# Altium integrated library Capacitors - Aluminum - Electrolytic SMT.IntLib: 1988 symbols (part 7 of 50)
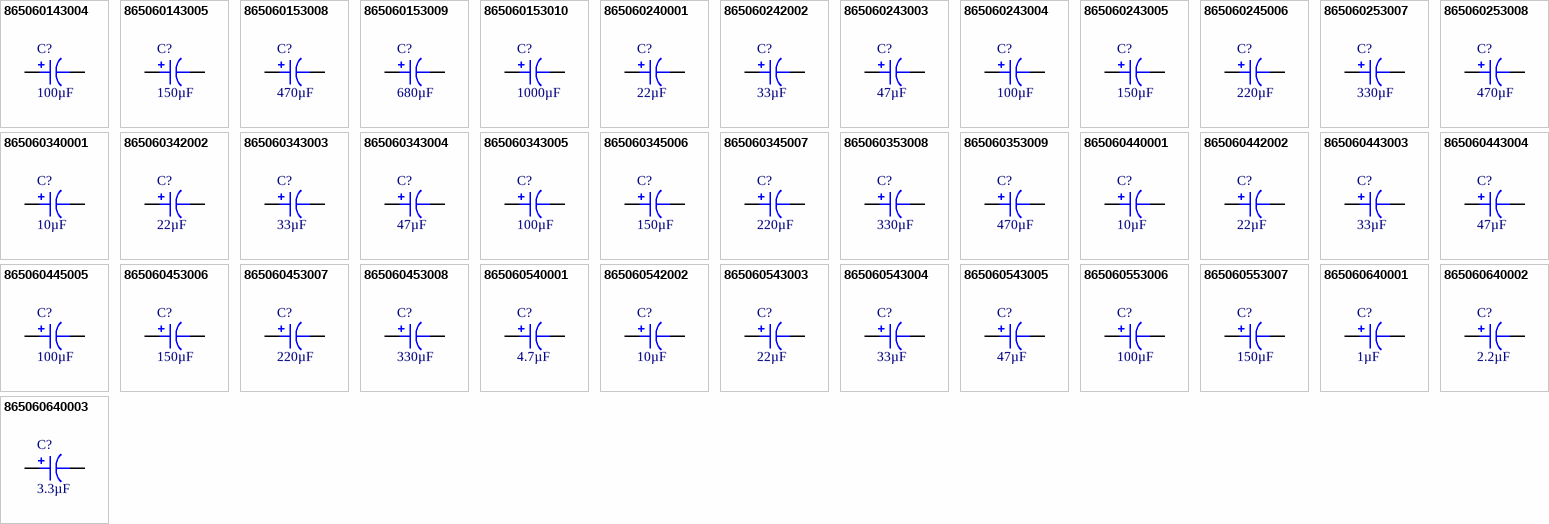
[diagram p55: symbols 865060143004 to 865060640003]

## 865060153008
designator C?, comment 470µF
CAP 470 UF 20% 6.3 V; Part Number: 865060153008; Manufacturer: Würth Elektronik; Impedance: 170 mOhms; Lifetime @ Temp.: 5000 Hrs @ 105°C; Polarization: Polar; Ripple Current @ High Frequency: 500mA @ 100kHz; Ripple Current @ Low Frequency: 325mA @ 120Hz; Surface Mount Land Size: 0.327" L x 0.327" W (8.30mm x 8.30mm); Voltage - Rated: 6.3V; Applications: General Purpose; Capacitance: 470µF; ComponentLink1Description: Datasheet; ComponentLink1URL: https://katalog.we-online.de/pbs/datasheet/865060153008.pdf; ComponentLink2Description: DigiKey Link; ComponentLink2URL: http://digikey.com/product-detail/en/w-rth-elektronik/865060153008/732-8563-1-ND/5728520; Device Package: Radial, Can - SMD; Height - Seated (Max): 0.413" (10.50mm); LastUpdated: 9/2/2020 1:25:16 AM; Lifecycle Status: Active; Minimum Order: 1; Mounting Type: Surface Mount; Operating Temperature: -55°C ~ 105°C; Package / Case: Radial, Can - SMD; Packaging: TapeAndReel; PartId: 7479; Part Status: Active; Price: 0.38; Series: WCAP-ASLL; Size / Dimension: 0.315" Dia (8.00mm); Supplier 1: DigiKey; Supplier Part Number 1: 732-8563-1-ND; Tolerance: ±20%; Value: 470µF
footprint CAP ALSMD 8.3MM H10.5MM
pins: 1, 2

## 865060153009
designator C?, comment 680µF
CAP 680 UF 20% 6.3 V; Part Number: 865060153009; Manufacturer: Würth Elektronik; Impedance: 170 mOhms; Lifetime @ Temp.: 5000 Hrs @ 105°C; Polarization: Polar; Ripple Current @ High Frequency: 550mA @ 100kHz; Ripple Current @ Low Frequency: 357.5mA @ 120Hz; Surface Mount Land Size: 0.327" L x 0.327" W (8.30mm x 8.30mm); Voltage - Rated: 6.3V; Applications: General Purpose; Capacitance: 680µF; ComponentLink1Description: Datasheet; ComponentLink1URL: https://katalog.we-online.de/pbs/datasheet/865060153009.pdf; ComponentLink2Description: DigiKey Link; ComponentLink2URL: http://digikey.com/product-detail/en/w-rth-elektronik/865060153009/732-8564-1-ND/5728521; Device Package: Radial, Can - SMD; Height - Seated (Max): 0.413" (10.50mm); LastUpdated: 9/2/2020 1:25:15 AM; Lifecycle Status: Active; Minimum Order: 1; Mounting Type: Surface Mount; Operating Temperature: -55°C ~ 105°C; Package / Case: Radial, Can - SMD; Packaging: TapeAndReel; PartId: 7589; Part Status: Active; Price: 0.40; Series: WCAP-ASLL; Size / Dimension: 0.315" Dia (8.00mm); Supplier 1: DigiKey; Supplier Part Number 1: 732-8564-1-ND; Tolerance: ±20%; Value: 680µF
footprint CAP ALSMD 8.3MM H10.5MM
pins: 1, 2

## 865060153010
designator C?, comment 1000µF
CAP 1000 UF 20% 6.3 V; Part Number: 865060153010; Manufacturer: Würth Elektronik; Impedance: 170 mOhms; Lifetime @ Temp.: 5000 Hrs @ 105°C; Polarization: Polar; Ripple Current @ High Frequency: 550mA @ 100kHz; Ripple Current @ Low Frequency: 357.5mA @ 120Hz; Surface Mount Land Size: 0.327" L x 0.327" W (8.30mm x 8.30mm); Voltage - Rated: 6.3V; Applications: General Purpose; Capacitance: 1000µF; ComponentLink1Description: Datasheet; ComponentLink1URL: https://katalog.we-online.de/pbs/datasheet/865060153010.pdf; ComponentLink2Description: DigiKey Link; ComponentLink2URL: http://digikey.com/product-detail/en/w-rth-elektronik/865060153010/732-8565-1-ND/5728522; Device Package: Radial, Can - SMD; Height - Seated (Max): 0.413" (10.50mm); LastUpdated: 9/2/2020 1:25:16 AM; Lifecycle Status: Active; Minimum Order: 1; Mounting Type: Surface Mount; Operating Temperature: -55°C ~ 105°C; Package / Case: Radial, Can - SMD; Packaging: TapeAndReel; PartId: 7480; Part Status: Active; Price: 0.41; Series: WCAP-ASLL; Size / Dimension: 0.315" Dia (8.00mm); Supplier 1: DigiKey; Supplier Part Number 1: 732-8565-1-ND; Tolerance: ±20%; Value: 1000µF
footprint CAP ALSMD 8.3MM H10.5MM
pins: 1, 2

## 865060240001
designator C?, comment 22µF
CAP 22 UF 20% 10 V; Part Number: 865060240001; Manufacturer: Würth Elektronik; Impedance: 1.35 Ohms; Lifetime @ Temp.: 2000 Hrs @ 105°C; Polarization: Polar; Ripple Current @ High Frequency: 90mA @ 100kHz; Ripple Current @ Low Frequency: 58.5mA @ 120Hz; Surface Mount Land Size: 0.169" L x 0.169" W (4.30mm x 4.30mm); Voltage - Rated: 10V; Applications: General Purpose; Capacitance: 22µF; ComponentLink1Description: Datasheet; ComponentLink1URL: https://katalog.we-online.de/pbs/datasheet/865060240001.pdf; ComponentLink2Description: DigiKey Link; ComponentLink2URL: http://digikey.com/product-detail/en/w-rth-elektronik/865060240001/732-8569-1-ND/5728526; Device Package: Radial, Can - SMD; Height - Seated (Max): 0.217" (5.50mm); LastUpdated: 9/2/2020 1:23:45 AM; Lifecycle Status: Active; Minimum Order: 1; Mounting Type: Surface Mount; Operating Temperature: -55°C ~ 105°C; Package / Case: Radial, Can - SMD; Packaging: TapeAndReel; PartId: 7377; Part Status: Active; Price: 0.11; Series: WCAP-ASLL; Size / Dimension: 0.157" Dia (4.00mm); Supplier 1: DigiKey; Supplier Part Number 1: 732-8569-1-ND; Tolerance: ±20%; Value: 22µF
footprint CAP ALSMD POLY 4.3MM H5.5MM
pins: 1, 2

## 865060242002
designator C?, comment 33µF
CAP 33 UF 20% 10 V; Part Number: 865060242002; Manufacturer: Würth Elektronik; Impedance: 800 mOhms; Lifetime @ Temp.: 2000 Hrs @ 105°C; Polarization: Polar; Ripple Current @ High Frequency: 160mA @ 100kHz; Ripple Current @ Low Frequency: 104mA @ 120Hz; Surface Mount Land Size: 0.209" L x 0.209" W (5.30mm x 5.30mm); Voltage - Rated: 10V; Applications: General Purpose; Capacitance: 33µF; ComponentLink1Description: Datasheet; ComponentLink1URL: https://katalog.we-online.de/pbs/datasheet/865060242002.pdf; ComponentLink2Description: DigiKey Link; ComponentLink2URL: http://digikey.com/product-detail/en/w-rth-elektronik/865060242002/732-8570-1-ND/5728527; Device Package: Radial, Can - SMD; Height - Seated (Max): 0.217" (5.50mm); LastUpdated: 9/2/2020 1:25:23 AM; Lifecycle Status: Active; Minimum Order: 1; Mounting Type: Surface Mount; Operating Temperature: -55°C ~ 105°C; Package / Case: Radial, Can - SMD; Packaging: TapeAndReel; PartId: 7913; Part Status: Active; Price: 0.13; Series: WCAP-ASLL; Size / Dimension: 0.197" Dia (5.00mm); Supplier 1: DigiKey; Supplier Part Number 1: 732-8570-1-ND; Tolerance: ±20%; Value: 33µF
footprint CAP ALSMD 5.3MM H5.4MM
pins: 1, 2

## 865060243003
designator C?, comment 47µF
CAP 47 UF 20% 10 V; Part Number: 865060243003; Manufacturer: Würth Elektronik; Impedance: 440 mOhms; Lifetime @ Temp.: 2000 Hrs @ 105°C; Polarization: Polar; Ripple Current @ High Frequency: 230mA @ 100kHz; Ripple Current @ Low Frequency: 149.5mA @ 120Hz; Surface Mount Land Size: 0.260" L x 0.260" W (6.60mm x 6.60mm); Voltage - Rated: 10V; Applications: General Purpose; Capacitance: 47µF; ComponentLink1Description: Datasheet; ComponentLink1URL: https://katalog.we-online.de/pbs/datasheet/865060243003.pdf; ComponentLink2Description: DigiKey Link; ComponentLink2URL: http://digikey.com/product-detail/en/w-rth-elektronik/865060243003/732-8571-1-ND/5728528; Device Package: Radial, Can - SMD; Height - Seated (Max): 0.217" (5.50mm); LastUpdated: 9/2/2020 1:18:37 AM; Lifecycle Status: Active; Minimum Order: 1; Mounting Type: Surface Mount; Operating Temperature: -55°C ~ 105°C; Package / Case: Radial, Can - SMD; Packaging: TapeAndReel; PartId: 8848; Part Status: Active; Price: 0.16; Series: WCAP-ASLL; Size / Dimension: 0.248" Dia (6.30mm); Supplier 1: DigiKey; Supplier Part Number 1: 732-8571-1-ND; Tolerance: ±20%; Value: 47µF
footprint CAP ALSMD 6.6MM H6.1MM
pins: 1, 2

## 865060243004
designator C?, comment 100µF
CAP 100 UF 20% 10 V; Part Number: 865060243004; Manufacturer: Würth Elektronik; Impedance: 440 mOhms; Lifetime @ Temp.: 2000 Hrs @ 105°C; Polarization: Polar; Ripple Current @ High Frequency: 240mA @ 100kHz; Ripple Current @ Low Frequency: 156mA @ 120Hz; Surface Mount Land Size: 0.260" L x 0.260" W (6.60mm x 6.60mm); Voltage - Rated: 10V; Applications: General Purpose; Capacitance: 100µF; ComponentLink1Description: Datasheet; ComponentLink1URL: https://katalog.we-online.de/pbs/datasheet/865060243004.pdf; ComponentLink2Description: DigiKey Link; ComponentLink2URL: http://digikey.com/product-detail/en/w-rth-elektronik/865060243004/732-8572-1-ND/5728529; Device Package: Radial, Can - SMD; Height - Seated (Max): 0.217" (5.50mm); LastUpdated: 9/2/2020 1:18:40 AM; Lifecycle Status: Active; Minimum Order: 1; Mounting Type: Surface Mount; Operating Temperature: -55°C ~ 105°C; Package / Case: Radial, Can - SMD; Packaging: TapeAndReel; PartId: 9049; Part Status: Active; Price: 0.17; Series: WCAP-ASLL; Size / Dimension: 0.248" Dia (6.30mm); Supplier 1: DigiKey; Supplier Part Number 1: 732-8572-1-ND; Tolerance: ±20%; Value: 100µF
footprint CAP ALSMD 6.6MM H6.1MM
pins: 1, 2

## 865060243005
designator C?, comment 150µF
CAP 150 UF 20% 10 V; Part Number: 865060243005; Manufacturer: Würth Elektronik; Impedance: 440 mOhms; Lifetime @ Temp.: 2000 Hrs @ 105°C; Polarization: Polar; Ripple Current @ High Frequency: 250mA @ 100kHz; Ripple Current @ Low Frequency: 162.5mA @ 120Hz; Surface Mount Land Size: 0.260" L x 0.260" W (6.60mm x 6.60mm); Voltage - Rated: 10V; Applications: General Purpose; Capacitance: 150µF; ComponentLink1Description: Datasheet; ComponentLink1URL: https://katalog.we-online.de/pbs/datasheet/865060243005.pdf; ComponentLink2Description: DigiKey Link; ComponentLink2URL: http://digikey.com/product-detail/en/w-rth-elektronik/865060243005/732-8573-1-ND/5728530; Device Package: Radial, Can - SMD; Height - Seated (Max): 0.217" (5.50mm); LastUpdated: 9/2/2020 1:18:37 AM; Lifecycle Status: Active; Minimum Order: 1; Mounting Type: Surface Mount; Operating Temperature: -55°C ~ 105°C; Package / Case: Radial, Can - SMD; Packaging: TapeAndReel; PartId: 8844; Part Status: Active; Price: 0.18; Series: WCAP-ASLL; Size / Dimension: 0.248" Dia (6.30mm); Supplier 1: DigiKey; Supplier Part Number 1: 732-8573-1-ND; Tolerance: ±20%; Value: 150µF
footprint CAP ALSMD 6.6MM H6.1MM
pins: 1, 2

## 865060245006
designator C?, comment 220µF
CAP 220 UF 20% 10 V; Part Number: 865060245006; Manufacturer: Würth Elektronik; Impedance: 360 mOhms; Lifetime @ Temp.: 2000 Hrs @ 105°C; Polarization: Polar; Ripple Current @ High Frequency: 300mA @ 100kHz; Ripple Current @ Low Frequency: 195mA @ 120Hz; Surface Mount Land Size: 0.260" L x 0.260" W (6.60mm x 6.60mm); Voltage - Rated: 10V; Applications: General Purpose; Capacitance: 220µF; ComponentLink1Description: Datasheet; ComponentLink1URL: https://katalog.we-online.de/pbs/datasheet/865060245006.pdf; ComponentLink2Description: DigiKey Link; ComponentLink2URL: http://digikey.com/product-detail/en/w-rth-elektronik/865060245006/732-8574-1-ND/5728531; Device Package: Radial, Can - SMD; Height - Seated (Max): 0.303" (7.70mm); LastUpdated: 9/2/2020 1:25:34 AM; Lifecycle Status: Active; Minimum Order: 1; Mounting Type: Surface Mount; Operating Temperature: -55°C ~ 105°C; Package / Case: Radial, Can - SMD; Packaging: TapeAndReel; PartId: 8310; Part Status: Active; Price: 0.20; Series: WCAP-ASLL; Size / Dimension: 0.248" Dia (6.30mm); Supplier 1: DigiKey; Supplier Part Number 1: 732-8574-1-ND; Tolerance: ±20%; Value: 220µF
footprint CAP ALSMD 6.6MM H7.7MM
pins: 1, 2

## 865060253007
designator C?, comment 330µF
CAP 330 UF 20% 10 V; Part Number: 865060253007; Manufacturer: Würth Elektronik; Impedance: 170 mOhms; Lifetime @ Temp.: 5000 Hrs @ 105°C; Polarization: Polar; Ripple Current @ High Frequency: 500mA @ 100kHz; Ripple Current @ Low Frequency: 325mA @ 120Hz; Surface Mount Land Size: 0.327" L x 0.327" W (8.30mm x 8.30mm); Voltage - Rated: 10V; Applications: General Purpose; Capacitance: 330µF; ComponentLink1Description: Datasheet; ComponentLink1URL: https://katalog.we-online.de/pbs/datasheet/865060253007.pdf; ComponentLink2Description: DigiKey Link; ComponentLink2URL: http://digikey.com/product-detail/en/w-rth-elektronik/865060253007/732-8575-1-ND/5728532; Device Package: Radial, Can - SMD; Height - Seated (Max): 0.413" (10.50mm); LastUpdated: 9/2/2020 1:25:16 AM; Lifecycle Status: Active; Minimum Order: 1; Mounting Type: Surface Mount; Operating Temperature: -55°C ~ 105°C; Package / Case: Radial, Can - SMD; Packaging: TapeAndReel; PartId: 7477; Part Status: Active; Price: 0.36; Series: WCAP-ASLL; Size / Dimension: 0.315" Dia (8.00mm); Supplier 1: DigiKey; Supplier Part Number 1: 732-8575-1-ND; Tolerance: ±20%; Value: 330µF
footprint CAP ALSMD 8.3MM H10.5MM
pins: 1, 2

## 865060253008
designator C?, comment 470µF
CAP 470 UF 20% 10 V; Part Number: 865060253008; Manufacturer: Würth Elektronik; Impedance: 170 mOhms; Lifetime @ Temp.: 5000 Hrs @ 105°C; Polarization: Polar; Ripple Current @ High Frequency: 550mA @ 100kHz; Ripple Current @ Low Frequency: 357.5mA @ 120Hz; Surface Mount Land Size: 0.327" L x 0.327" W (8.30mm x 8.30mm); Voltage - Rated: 10V; Applications: General Purpose; Capacitance: 470µF; ComponentLink1Description: Datasheet; ComponentLink1URL: https://katalog.we-online.de/pbs/datasheet/865060253008.pdf; ComponentLink2Description: DigiKey Link; ComponentLink2URL: http://digikey.com/product-detail/en/w-rth-elektronik/865060253008/732-8576-1-ND/5728533; Device Package: Radial, Can - SMD; Height - Seated (Max): 0.413" (10.50mm); LastUpdated: 9/2/2020 1:25:16 AM; Lifecycle Status: Active; Minimum Order: 1; Mounting Type: Surface Mount; Operating Temperature: -55°C ~ 105°C; Package / Case: Radial, Can - SMD; Packaging: TapeAndReel; PartId: 7465; Part Status: Active; Price: 0.38; Series: WCAP-ASLL; Size / Dimension: 0.315" Dia (8.00mm); Supplier 1: DigiKey; Supplier Part Number 1: 732-8576-1-ND; Tolerance: ±20%; Value: 470µF
footprint CAP ALSMD 8.3MM H10.5MM
pins: 1, 2

## 865060340001
designator C?, comment 10µF
CAP 10 UF 20% 16 V; Part Number: 865060340001; Manufacturer: Würth Elektronik; Impedance: 1.35 Ohms; Lifetime @ Temp.: 2000 Hrs @ 105°C; Polarization: Polar; Ripple Current @ High Frequency: 90mA @ 100kHz; Ripple Current @ Low Frequency: 53.1mA @ 120Hz; Surface Mount Land Size: 0.169" L x 0.169" W (4.30mm x 4.30mm); Voltage - Rated: 16V; Applications: General Purpose; Capacitance: 10µF; ComponentLink1Description: Datasheet; ComponentLink1URL: https://katalog.we-online.de/pbs/datasheet/865060340001.pdf; ComponentLink2Description: DigiKey Link; ComponentLink2URL: http://digikey.com/product-detail/en/w-rth-elektronik/865060340001/732-8518-1-ND/5728475; Device Package: Radial, Can - SMD; Height - Seated (Max): 0.217" (5.50mm); LastUpdated: 9/2/2020 1:23:44 AM; Lifecycle Status: Active; Minimum Order: 1; Mounting Type: Surface Mount; Operating Temperature: -55°C ~ 105°C; Package / Case: Radial, Can - SMD; Packaging: TapeAndReel; PartId: 7403; Part Status: Active; Price: 0.10; Series: WCAP-ASLL; Size / Dimension: 0.157" Dia (4.00mm); Supplier 1: DigiKey; Supplier Part Number 1: 732-8518-1-ND; Tolerance: ±20%; Value: 10µF
footprint CAP ALSMD POLY 4.3MM H5.5MM
pins: 1, 2

## 865060342002
designator C?, comment 22µF
CAP 22 UF 20% 16 V; Part Number: 865060342002; Manufacturer: Würth Elektronik; Impedance: 800 mOhms; Lifetime @ Temp.: 2000 Hrs @ 105°C; Polarization: Polar; Ripple Current @ High Frequency: 150mA @ 100kHz; Ripple Current @ Low Frequency: 97.5mA @ 120Hz; Surface Mount Land Size: 0.209" L x 0.209" W (5.30mm x 5.30mm); Voltage - Rated: 16V; Applications: General Purpose; Capacitance: 22µF; ComponentLink1Description: Datasheet; ComponentLink1URL: https://katalog.we-online.de/pbs/datasheet/865060342002.pdf; ComponentLink2Description: DigiKey Link; ComponentLink2URL: http://digikey.com/product-detail/en/w-rth-elektronik/865060342002/732-8519-1-ND/5728476; Device Package: Radial, Can - SMD; Height - Seated (Max): 0.217" (5.50mm); LastUpdated: 9/2/2020 1:25:23 AM; Lifecycle Status: Active; Minimum Order: 1; Mounting Type: Surface Mount; Operating Temperature: -55°C ~ 105°C; Package / Case: Radial, Can - SMD; Packaging: TapeAndReel; PartId: 7904; Part Status: Active; Price: 0.11; Series: WCAP-ASLL; Size / Dimension: 0.197" Dia (5.00mm); Supplier 1: DigiKey; Supplier Part Number 1: 732-8519-1-ND; Tolerance: ±20%; Value: 22µF
footprint CAP ALSMD 5.3MM H5.4MM
pins: 1, 2

## 865060343003
designator C?, comment 33µF
CAP 33 UF 20% 16 V; Part Number: 865060343003; Manufacturer: Würth Elektronik; Impedance: 440 mOhms; Lifetime @ Temp.: 2000 Hrs @ 105°C; Polarization: Polar; Ripple Current @ High Frequency: 230mA @ 100kHz; Ripple Current @ Low Frequency: 149.5mA @ 120Hz; Surface Mount Land Size: 0.260" L x 0.260" W (6.60mm x 6.60mm); Voltage - Rated: 16V; Applications: General Purpose; Capacitance: 33µF; ComponentLink1Description: Datasheet; ComponentLink1URL: https://katalog.we-online.de/pbs/datasheet/865060343003.pdf; ComponentLink2Description: DigiKey Link; ComponentLink2URL: http://digikey.com/product-detail/en/w-rth-elektronik/865060343003/732-8520-1-ND/5728477; Device Package: Radial, Can - SMD; Height - Seated (Max): 0.217" (5.50mm); LastUpdated: 9/2/2020 1:18:39 AM; Lifecycle Status: Active; Minimum Order: 1; Mounting Type: Surface Mount; Operating Temperature: -55°C ~ 105°C; Package / Case: Radial, Can - SMD; Packaging: TapeAndReel; PartId: 8994; Part Status: Active; Price: 0.13; Series: WCAP-ASLL; Size / Dimension: 0.248" Dia (6.30mm); Supplier 1: DigiKey; Supplier Part Number 1: 732-8520-1-ND; Tolerance: ±20%; Value: 33µF
footprint CAP ALSMD 6.6MM H6.1MM
pins: 1, 2

## 865060343004
designator C?, comment 47µF
CAP 47 UF 20% 16 V; Part Number: 865060343004; Manufacturer: Würth Elektronik; Impedance: 440 mOhms; Lifetime @ Temp.: 2000 Hrs @ 105°C; Polarization: Polar; Ripple Current @ High Frequency: 230mA @ 100kHz; Ripple Current @ Low Frequency: 149.5mA @ 120Hz; Surface Mount Land Size: 0.260" L x 0.260" W (6.60mm x 6.60mm); Voltage - Rated: 16V; Applications: General Purpose; Capacitance: 47µF; ComponentLink1Description: Datasheet; ComponentLink1URL: https://katalog.we-online.de/pbs/datasheet/865060343004.pdf; ComponentLink2Description: DigiKey Link; ComponentLink2URL: http://digikey.com/product-detail/en/w-rth-elektronik/865060343004/732-8521-1-ND/5728478; Device Package: Radial, Can - SMD; Height - Seated (Max): 0.217" (5.50mm); LastUpdated: 9/2/2020 1:18:37 AM; Lifecycle Status: Active; Minimum Order: 1; Mounting Type: Surface Mount; Operating Temperature: -55°C ~ 105°C; Package / Case: Radial, Can - SMD; Packaging: TapeAndReel; PartId: 8853; Part Status: Active; Price: 0.15; Series: WCAP-ASLL; Size / Dimension: 0.248" Dia (6.30mm); Supplier 1: DigiKey; Supplier Part Number 1: 732-8521-1-ND; Tolerance: ±20%; Value: 47µF
footprint CAP ALSMD 6.6MM H6.1MM
pins: 1, 2

## 865060343005
designator C?, comment 100µF
CAP 100 UF 20% 16 V; Part Number: 865060343005; Manufacturer: Würth Elektronik; Impedance: 440 mOhms; Lifetime @ Temp.: 2000 Hrs @ 105°C; Polarization: Polar; Ripple Current @ High Frequency: 255mA @ 100kHz; Ripple Current @ Low Frequency: 165.75mA @ 120Hz; Surface Mount Land Size: 0.260" L x 0.260" W (6.60mm x 6.60mm); Voltage - Rated: 16V; Applications: General Purpose; Capacitance: 100µF; ComponentLink1Description: Datasheet; ComponentLink1URL: https://katalog.we-online.de/pbs/datasheet/865060343005.pdf; ComponentLink2Description: DigiKey Link; ComponentLink2URL: http://digikey.com/product-detail/en/w-rth-elektronik/865060343005/732-8522-1-ND/5728479; Device Package: Radial, Can - SMD; Height - Seated (Max): 0.217" (5.50mm); LastUpdated: 9/2/2020 1:18:37 AM; Lifecycle Status: Active; Minimum Order: 1; Mounting Type: Surface Mount; Operating Temperature: -55°C ~ 105°C; Package / Case: Radial, Can - SMD; Packaging: TapeAndReel; PartId: 8850; Part Status: Active; Price: 0.16; Series: WCAP-ASLL; Size / Dimension: 0.248" Dia (6.30mm); Supplier 1: DigiKey; Supplier Part Number 1: 732-8522-1-ND; Tolerance: ±20%; Value: 100µF
footprint CAP ALSMD 6.6MM H6.1MM
pins: 1, 2

## 865060345006
designator C?, comment 150µF
CAP 150 UF 20% 16 V; Part Number: 865060345006; Manufacturer: Würth Elektronik; Impedance: 360 mOhms; Lifetime @ Temp.: 2000 Hrs @ 105°C; Polarization: Polar; Ripple Current @ High Frequency: 280mA @ 100kHz; Ripple Current @ Low Frequency: 182mA @ 120Hz; Surface Mount Land Size: 0.260" L x 0.260" W (6.60mm x 6.60mm); Voltage - Rated: 16V; Applications: General Purpose; Capacitance: 150µF; ComponentLink1Description: Datasheet; ComponentLink1URL: https://katalog.we-online.de/pbs/datasheet/865060345006.pdf; ComponentLink2Description: DigiKey Link; ComponentLink2URL: http://digikey.com/product-detail/en/w-rth-elektronik/865060345006/732-8523-1-ND/5728480; Device Package: Radial, Can - SMD; Height - Seated (Max): 0.303" (7.70mm); LastUpdated: 9/2/2020 1:25:34 AM; Lifecycle Status: Active; Minimum Order: 1; Mounting Type: Surface Mount; Operating Temperature: -55°C ~ 105°C; Package / Case: Radial, Can - SMD; Packaging: TapeAndReel; PartId: 8257; Part Status: Active; Price: 0.21; Series: WCAP-ASLL; Size / Dimension: 0.248" Dia (6.30mm); Supplier 1: DigiKey; Supplier Part Number 1: 732-8523-1-ND; Tolerance: ±20%; Value: 150µF
footprint CAP ALSMD 6.6MM H7.7MM
pins: 1, 2

## 865060345007
designator C?, comment 220µF
CAP 220 UF 20% 16 V; Part Number: 865060345007; Manufacturer: Würth Elektronik; Impedance: 360 mOhms; Lifetime @ Temp.: 2000 Hrs @ 105°C; Polarization: Polar; Ripple Current @ High Frequency: 280mA @ 100kHz; Ripple Current @ Low Frequency: 182mA @ 120Hz; Surface Mount Land Size: 0.260" L x 0.260" W (6.60mm x 6.60mm); Voltage - Rated: 16V; Applications: General Purpose; Capacitance: 220µF; ComponentLink1Description: Datasheet; ComponentLink1URL: https://katalog.we-online.de/pbs/datasheet/865060345007.pdf; ComponentLink2Description: DigiKey Link; ComponentLink2URL: http://digikey.com/product-detail/en/w-rth-elektronik/865060345007/732-8524-1-ND/5728481; Device Package: Radial, Can - SMD; Height - Seated (Max): 0.303" (7.70mm); LastUpdated: 9/2/2020 1:25:34 AM; Lifecycle Status: Active; Minimum Order: 1; Mounting Type: Surface Mount; Operating Temperature: -55°C ~ 105°C; Package / Case: Radial, Can - SMD; Packaging: TapeAndReel; PartId: 8339; Part Status: Active; Price: 0.20; Series: WCAP-ASLL; Size / Dimension: 0.248" Dia (6.30mm); Supplier 1: DigiKey; Supplier Part Number 1: 732-8524-1-ND; Tolerance: ±20%; Value: 220µF
footprint CAP ALSMD 6.6MM H7.7MM
pins: 1, 2

## 865060353008
designator C?, comment 330µF
CAP 330 UF 20% 16 V; Part Number: 865060353008; Manufacturer: Würth Elektronik; Impedance: 170 mOhms; Lifetime @ Temp.: 5000 Hrs @ 105°C; Polarization: Polar; Ripple Current @ High Frequency: 550mA @ 100kHz; Ripple Current @ Low Frequency: 357.5mA @ 120Hz; Surface Mount Land Size: 0.327" L x 0.327" W (8.30mm x 8.30mm); Voltage - Rated: 16V; Applications: General Purpose; Capacitance: 330µF; ComponentLink1Description: Datasheet; ComponentLink1URL: https://katalog.we-online.de/pbs/datasheet/865060353008.pdf; ComponentLink2Description: DigiKey Link; ComponentLink2URL: http://digikey.com/product-detail/en/w-rth-elektronik/865060353008/732-8525-1-ND/5728482; Device Package: Radial, Can - SMD; Height - Seated (Max): 0.413" (10.50mm); LastUpdated: 9/2/2020 1:25:16 AM; Lifecycle Status: Active; Minimum Order: 1; Mounting Type: Surface Mount; Operating Temperature: -55°C ~ 105°C; Package / Case: Radial, Can - SMD; Packaging: TapeAndReel; PartId: 7463; Part Status: Active; Price: 0.38; Series: WCAP-ASLL; Size / Dimension: 0.315" Dia (8.00mm); Supplier 1: DigiKey; Supplier Part Number 1: 732-8525-1-ND; Tolerance: ±20%; Value: 330µF
footprint CAP ALSMD 8.3MM H10.5MM
pins: 1, 2

## 865060353009
designator C?, comment 470µF
CAP 470 UF 20% 16 V; Part Number: 865060353009; Manufacturer: Würth Elektronik; Impedance: 170 mOhms; Lifetime @ Temp.: 5000 Hrs @ 105°C; Polarization: Polar; Ripple Current @ High Frequency: 600mA @ 100kHz; Ripple Current @ Low Frequency: 390mA @ 120Hz; Surface Mount Land Size: 0.327" L x 0.327" W (8.30mm x 8.30mm); Voltage - Rated: 16V; Applications: General Purpose; Capacitance: 470µF; ComponentLink1Description: Datasheet; ComponentLink1URL: https://katalog.we-online.de/pbs/datasheet/865060353009.pdf; ComponentLink2Description: DigiKey Link; ComponentLink2URL: http://digikey.com/product-detail/en/w-rth-elektronik/865060353009/732-8526-1-ND/5728483; Device Package: Radial, Can - SMD; Height - Seated (Max): 0.413" (10.50mm); LastUpdated: 9/2/2020 1:25:15 AM; Lifecycle Status: Active; Minimum Order: 1; Mounting Type: Surface Mount; Operating Temperature: -55°C ~ 105°C; Package / Case: Radial, Can - SMD; Packaging: TapeAndReel; PartId: 7523; Part Status: Active; Price: 0.47; Series: WCAP-ASLL; Size / Dimension: 0.315" Dia (8.00mm); Supplier 1: DigiKey; Supplier Part Number 1: 732-8526-1-ND; Tolerance: ±20%; Value: 470µF
footprint CAP ALSMD 8.3MM H10.5MM
pins: 1, 2

## 865060440001
designator C?, comment 10µF
CAP 10 UF 20% 25 V; Part Number: 865060440001; Manufacturer: Würth Elektronik; Impedance: 1.35 Ohms; Lifetime @ Temp.: 2000 Hrs @ 105°C; Polarization: Polar; Ripple Current @ High Frequency: 90mA @ 100kHz; Ripple Current @ Low Frequency: 53.1mA @ 120Hz; Surface Mount Land Size: 0.169" L x 0.169" W (4.30mm x 4.30mm); Voltage - Rated: 25V; Applications: General Purpose; Capacitance: 10µF; ComponentLink1Description: Datasheet; ComponentLink1URL: https://katalog.we-online.de/pbs/datasheet/865060440001.pdf; ComponentLink2Description: DigiKey Link; ComponentLink2URL: http://digikey.com/product-detail/en/w-rth-elektronik/865060440001/732-8530-1-ND/5728487; Device Package: Radial, Can - SMD; Height - Seated (Max): 0.217" (5.50mm); LastUpdated: 9/2/2020 1:23:45 AM; Lifecycle Status: Active; Minimum Order: 1; Mounting Type: Surface Mount; Operating Temperature: -55°C ~ 105°C; Package / Case: Radial, Can - SMD; Packaging: TapeAndReel; PartId: 7386; Part Status: Active; Price: 0.12; Series: WCAP-ASLL; Size / Dimension: 0.157" Dia (4.00mm); Supplier 1: DigiKey; Supplier Part Number 1: 732-8530-1-ND; Tolerance: ±20%; Value: 10µF
footprint CAP ALSMD POLY 4.3MM H5.5MM
pins: 1, 2

## 865060442002
designator C?, comment 22µF
CAP 22 UF 20% 25 V; Part Number: 865060442002; Manufacturer: Würth Elektronik; Impedance: 800 mOhms; Lifetime @ Temp.: 2000 Hrs @ 105°C; Polarization: Polar; Ripple Current @ High Frequency: 150mA @ 100kHz; Ripple Current @ Low Frequency: 97.5mA @ 120Hz; Surface Mount Land Size: 0.209" L x 0.209" W (5.30mm x 5.30mm); Voltage - Rated: 25V; Applications: General Purpose; Capacitance: 22µF; ComponentLink1Description: Datasheet; ComponentLink1URL: https://katalog.we-online.de/pbs/datasheet/865060442002.pdf; ComponentLink2Description: DigiKey Link; ComponentLink2URL: http://digikey.com/product-detail/en/w-rth-elektronik/865060442002/732-8531-1-ND/5728488; Device Package: Radial, Can - SMD; Height - Seated (Max): 0.217" (5.50mm); LastUpdated: 9/2/2020 1:25:23 AM; Lifecycle Status: Active; Minimum Order: 1; Mounting Type: Surface Mount; Operating Temperature: -55°C ~ 105°C; Package / Case: Radial, Can - SMD; Packaging: TapeAndReel; PartId: 7923; Part Status: Active; Price: 0.12; Series: WCAP-ASLL; Size / Dimension: 0.197" Dia (5.00mm); Supplier 1: DigiKey; Supplier Part Number 1: 732-8531-1-ND; Tolerance: ±20%; Value: 22µF
footprint CAP ALSMD 5.3MM H5.4MM
pins: 1, 2

## 865060443003
designator C?, comment 33µF
CAP 33 UF 20% 25 V; Part Number: 865060443003; Manufacturer: Würth Elektronik; Impedance: 440 mOhms; Lifetime @ Temp.: 2000 Hrs @ 105°C; Polarization: Polar; Ripple Current @ High Frequency: 230mA @ 100kHz; Ripple Current @ Low Frequency: 149.5mA @ 120Hz; Surface Mount Land Size: 0.260" L x 0.260" W (6.60mm x 6.60mm); Voltage - Rated: 25V; Applications: General Purpose; Capacitance: 33µF; ComponentLink1Description: Datasheet; ComponentLink1URL: https://katalog.we-online.de/pbs/datasheet/865060443003.pdf; ComponentLink2Description: DigiKey Link; ComponentLink2URL: http://digikey.com/product-detail/en/w-rth-elektronik/865060443003/732-8532-1-ND/5728489; Device Package: Radial, Can - SMD; Height - Seated (Max): 0.217" (5.50mm); LastUpdated: 9/2/2020 1:18:37 AM; Lifecycle Status: Active; Minimum Order: 1; Mounting Type: Surface Mount; Operating Temperature: -55°C ~ 105°C; Package / Case: Radial, Can - SMD; Packaging: TapeAndReel; PartId: 8856; Part Status: Active; Price: 0.15; Series: WCAP-ASLL; Size / Dimension: 0.248" Dia (6.30mm); Supplier 1: DigiKey; Supplier Part Number 1: 732-8532-1-ND; Tolerance: ±20%; Value: 33µF
footprint CAP ALSMD 6.6MM H6.1MM
pins: 1, 2

## 865060443004
designator C?, comment 47µF
CAP 47 UF 20% 25 V; Part Number: 865060443004; Manufacturer: Würth Elektronik; Impedance: 440 mOhms; Lifetime @ Temp.: 2000 Hrs @ 105°C; Polarization: Polar; Ripple Current @ High Frequency: 230mA @ 100kHz; Ripple Current @ Low Frequency: 149.5mA @ 120Hz; Surface Mount Land Size: 0.260" L x 0.260" W (6.60mm x 6.60mm); Voltage - Rated: 25V; Applications: General Purpose; Capacitance: 47µF; ComponentLink1Description: Datasheet; ComponentLink1URL: https://katalog.we-online.de/pbs/datasheet/865060443004.pdf; ComponentLink2Description: DigiKey Link; ComponentLink2URL: http://digikey.com/product-detail/en/w-rth-elektronik/865060443004/732-8533-1-ND/5728490; Device Package: Radial, Can - SMD; Height - Seated (Max): 0.217" (5.50mm); LastUpdated: 9/2/2020 1:18:37 AM; Lifecycle Status: Active; Minimum Order: 1; Mounting Type: Surface Mount; Operating Temperature: -55°C ~ 105°C; Package / Case: Radial, Can - SMD; Packaging: TapeAndReel; PartId: 8855; Part Status: Active; Price: 0.15; Series: WCAP-ASLL; Size / Dimension: 0.248" Dia (6.30mm); Supplier 1: DigiKey; Supplier Part Number 1: 732-8533-1-ND; Tolerance: ±20%; Value: 47µF
footprint CAP ALSMD 6.6MM H6.1MM
pins: 1, 2

## 865060445005
designator C?, comment 100µF
CAP 100 UF 20% 25 V; Part Number: 865060445005; Manufacturer: Würth Elektronik; Impedance: 360 mOhms; Lifetime @ Temp.: 2000 Hrs @ 105°C; Polarization: Polar; Ripple Current @ High Frequency: 300mA @ 100kHz; Ripple Current @ Low Frequency: 195mA @ 120Hz; Surface Mount Land Size: 0.260" L x 0.260" W (6.60mm x 6.60mm); Voltage - Rated: 25V; Applications: General Purpose; Capacitance: 100µF; ComponentLink1Description: Datasheet; ComponentLink1URL: https://katalog.we-online.de/pbs/datasheet/865060445005.pdf; ComponentLink2Description: DigiKey Link; ComponentLink2URL: http://digikey.com/product-detail/en/w-rth-elektronik/865060445005/732-8534-1-ND/5728491; Device Package: Radial, Can - SMD; Height - Seated (Max): 0.303" (7.70mm); LastUpdated: 9/2/2020 1:25:34 AM; Lifecycle Status: Active; Minimum Order: 1; Mounting Type: Surface Mount; Operating Temperature: -55°C ~ 105°C; Package / Case: Radial, Can - SMD; Packaging: TapeAndReel; PartId: 8308; Part Status: Active; Price: 0.20; Series: WCAP-ASLL; Size / Dimension: 0.248" Dia (6.30mm); Supplier 1: DigiKey; Supplier Part Number 1: 732-8534-1-ND; Tolerance: ±20%; Value: 100µF
footprint CAP ALSMD 6.6MM H7.7MM
pins: 1, 2

## 865060453006
designator C?, comment 150µF
CAP 150 UF 20% 25 V; Part Number: 865060453006; Manufacturer: Würth Elektronik; Impedance: 170 mOhms; Lifetime @ Temp.: 5000 Hrs @ 105°C; Polarization: Polar; Ripple Current @ High Frequency: 500mA @ 100kHz; Ripple Current @ Low Frequency: 325mA @ 120Hz; Surface Mount Land Size: 0.327" L x 0.327" W (8.30mm x 8.30mm); Voltage - Rated: 25V; Applications: General Purpose; Capacitance: 150µF; ComponentLink1Description: Datasheet; ComponentLink1URL: https://katalog.we-online.de/pbs/datasheet/865060453006.pdf; ComponentLink2Description: DigiKey Link; ComponentLink2URL: http://digikey.com/product-detail/en/w-rth-elektronik/865060453006/732-8535-1-ND/5728492; Device Package: Radial, Can - SMD; Height - Seated (Max): 0.413" (10.50mm); LastUpdated: 9/2/2020 1:25:15 AM; Lifecycle Status: Active; Minimum Order: 1; Mounting Type: Surface Mount; Operating Temperature: -55°C ~ 105°C; Package / Case: Radial, Can - SMD; Packaging: TapeAndReel; PartId: 7582; Part Status: Active; Price: 0.36; Series: WCAP-ASLL; Size / Dimension: 0.315" Dia (8.00mm); Supplier 1: DigiKey; Supplier Part Number 1: 732-8535-1-ND; Tolerance: ±20%; Value: 150µF
footprint CAP ALSMD 8.3MM H10.5MM
pins: 1, 2

## 865060453007
designator C?, comment 220µF
CAP 220 UF 20% 25 V; Part Number: 865060453007; Manufacturer: Würth Elektronik; Impedance: 170 mOhms; Lifetime @ Temp.: 5000 Hrs @ 105°C; Polarization: Polar; Ripple Current @ High Frequency: 550mA @ 100kHz; Ripple Current @ Low Frequency: 357.5mA @ 120Hz; Surface Mount Land Size: 0.327" L x 0.327" W (8.30mm x 8.30mm); Voltage - Rated: 25V; Applications: General Purpose; Capacitance: 220µF; ComponentLink1Description: Datasheet; ComponentLink1URL: https://katalog.we-online.de/pbs/datasheet/865060453007.pdf; ComponentLink2Description: DigiKey Link; ComponentLink2URL: http://digikey.com/product-detail/en/w-rth-elektronik/865060453007/732-8536-1-ND/5728493; Device Package: Radial, Can - SMD; Height - Seated (Max): 0.413" (10.50mm); LastUpdated: 9/2/2020 1:25:15 AM; Lifecycle Status: Active; Minimum Order: 1; Mounting Type: Surface Mount; Operating Temperature: -55°C ~ 105°C; Package / Case: Radial, Can - SMD; Packaging: TapeAndReel; PartId: 7591; Part Status: Active; Price: 0.40; Series: WCAP-ASLL; Size / Dimension: 0.315" Dia (8.00mm); Supplier 1: DigiKey; Supplier Part Number 1: 732-8536-1-ND; Tolerance: ±20%; Value: 220µF
footprint CAP ALSMD 8.3MM H10.5MM
pins: 1, 2

## 865060453008
designator C?, comment 330µF
CAP 330 UF 20% 25 V; Part Number: 865060453008; Manufacturer: Würth Elektronik; Impedance: 170 mOhms; Lifetime @ Temp.: 5000 Hrs @ 105°C; Polarization: Polar; Ripple Current @ High Frequency: 600mA @ 100kHz; Ripple Current @ Low Frequency: 390mA @ 120Hz; Surface Mount Land Size: 0.327" L x 0.327" W (8.30mm x 8.30mm); Voltage - Rated: 25V; Applications: General Purpose; Capacitance: 330µF; ComponentLink1Description: Datasheet; ComponentLink1URL: https://katalog.we-online.de/pbs/datasheet/865060453008.pdf; ComponentLink2Description: DigiKey Link; ComponentLink2URL: http://digikey.com/product-detail/en/w-rth-elektronik/865060453008/732-8537-1-ND/5728494; Device Package: Radial, Can - SMD; Height - Seated (Max): 0.413" (10.50mm); LastUpdated: 9/2/2020 1:25:15 AM; Lifecycle Status: Active; Minimum Order: 1; Mounting Type: Surface Mount; Operating Temperature: -55°C ~ 105°C; Package / Case: Radial, Can - SMD; Packaging: TapeAndReel; PartId: 7530; Part Status: Active; Price: 0.50; Series: WCAP-ASLL; Size / Dimension: 0.315" Dia (8.00mm); Supplier 1: DigiKey; Supplier Part Number 1: 732-8537-1-ND; Tolerance: ±20%; Value: 330µF
footprint CAP ALSMD 8.3MM H10.5MM
pins: 1, 2

## 865060540001
designator C?, comment 4.7µF
CAP 4.7 UF 20% 35 V; Part Number: 865060540001; Manufacturer: Würth Elektronik; Impedance: 900 mOhms; Lifetime @ Temp.: 2000 Hrs @ 105°C; Polarization: Polar; Ripple Current @ High Frequency: 90mA @ 100kHz; Ripple Current @ Low Frequency: 53.1mA @ 120Hz; Surface Mount Land Size: 0.169" L x 0.169" W (4.30mm x 4.30mm); Voltage - Rated: 35V; Applications: General Purpose; Capacitance: 4.7µF; ComponentLink1Description: Datasheet; ComponentLink1URL: https://katalog.we-online.de/pbs/datasheet/865060540001.pdf; ComponentLink2Description: DigiKey Link; ComponentLink2URL: http://digikey.com/product-detail/en/w-rth-elektronik/865060540001/732-8581-1-ND/5728538; Device Package: Radial, Can - SMD; Height - Seated (Max): 0.217" (5.50mm); LastUpdated: 9/2/2020 1:23:45 AM; Lifecycle Status: Active; Minimum Order: 1; Mounting Type: Surface Mount; Operating Temperature: -55°C ~ 105°C; Package / Case: Radial, Can - SMD; Packaging: TapeAndReel; PartId: 7380; Part Status: Active; Price: 0.11; Series: WCAP-ASLL; Size / Dimension: 0.157" Dia (4.00mm); Supplier 1: DigiKey; Supplier Part Number 1: 732-8581-1-ND; Tolerance: ±20%; Value: 4.7µF
footprint CAP ALSMD POLY 4.3MM H5.5MM
pins: 1, 2

## 865060542002
designator C?, comment 10µF
CAP 10 UF 20% 35 V; Part Number: 865060542002; Manufacturer: Würth Elektronik; Impedance: 800 mOhms; Lifetime @ Temp.: 2000 Hrs @ 105°C; Polarization: Polar; Ripple Current @ High Frequency: 150mA @ 100kHz; Ripple Current @ Low Frequency: 88.5mA @ 120Hz; Surface Mount Land Size: 0.209" L x 0.209" W (5.30mm x 5.30mm); Voltage - Rated: 35V; Applications: General Purpose; Capacitance: 10µF; ComponentLink1Description: Datasheet; ComponentLink1URL: https://katalog.we-online.de/pbs/datasheet/865060542002.pdf; ComponentLink2Description: DigiKey Link; ComponentLink2URL: http://digikey.com/product-detail/en/w-rth-elektronik/865060542002/732-8582-1-ND/5728539; Device Package: Radial, Can - SMD; Height - Seated (Max): 0.217" (5.50mm); LastUpdated: 9/2/2020 1:25:23 AM; Lifecycle Status: Active; Minimum Order: 1; Mounting Type: Surface Mount; Operating Temperature: -55°C ~ 105°C; Package / Case: Radial, Can - SMD; Packaging: TapeAndReel; PartId: 7912; Part Status: Active; Price: 0.13; Series: WCAP-ASLL; Size / Dimension: 0.197" Dia (5.00mm); Supplier 1: DigiKey; Supplier Part Number 1: 732-8582-1-ND; Tolerance: ±20%; Value: 10µF
footprint CAP ALSMD 5.3MM H5.4MM
pins: 1, 2

## 865060543003
designator C?, comment 22µF
CAP 22 UF 20% 35 V; Part Number: 865060543003; Manufacturer: Würth Elektronik; Impedance: 440 mOhms; Lifetime @ Temp.: 2000 Hrs @ 105°C; Polarization: Polar; Ripple Current @ High Frequency: 230mA @ 100kHz; Ripple Current @ Low Frequency: 149.5mA @ 120Hz; Surface Mount Land Size: 0.260" L x 0.260" W (6.60mm x 6.60mm); Voltage - Rated: 35V; Applications: General Purpose; Capacitance: 22µF; ComponentLink1Description: Datasheet; ComponentLink1URL: https://katalog.we-online.de/pbs/datasheet/865060543003.pdf; ComponentLink2Description: DigiKey Link; ComponentLink2URL: http://digikey.com/product-detail/en/w-rth-elektronik/865060543003/732-8583-1-ND/5728540; Device Package: Radial, Can - SMD; Height - Seated (Max): 0.217" (5.50mm); LastUpdated: 9/2/2020 1:18:39 AM; Lifecycle Status: Active; Minimum Order: 1; Mounting Type: Surface Mount; Operating Temperature: -55°C ~ 105°C; Package / Case: Radial, Can - SMD; Packaging: TapeAndReel; PartId: 8963; Part Status: Active; Price: 0.15; Series: WCAP-ASLL; Size / Dimension: 0.248" Dia (6.30mm); Supplier 1: DigiKey; Supplier Part Number 1: 732-8583-1-ND; Tolerance: ±20%; Value: 22µF
footprint CAP ALSMD 6.6MM H6.1MM
pins: 1, 2

## 865060543004
designator C?, comment 33µF
CAP 33 UF 20% 35 V; Part Number: 865060543004; Manufacturer: Würth Elektronik; Impedance: 440 mOhms; Lifetime @ Temp.: 2000 Hrs @ 105°C; Polarization: Polar; Ripple Current @ High Frequency: 240mA @ 100kHz; Ripple Current @ Low Frequency: 156mA @ 120Hz; Surface Mount Land Size: 0.260" L x 0.260" W (6.60mm x 6.60mm); Voltage - Rated: 35V; Applications: General Purpose; Capacitance: 33µF; ComponentLink1Description: Datasheet; ComponentLink1URL: https://katalog.we-online.de/pbs/datasheet/865060543004.pdf; ComponentLink2Description: DigiKey Link; ComponentLink2URL: http://digikey.com/product-detail/en/w-rth-elektronik/865060543004/732-8584-1-ND/5728541; Device Package: Radial, Can - SMD; Height - Seated (Max): 0.217" (5.50mm); LastUpdated: 9/2/2020 1:18:37 AM; Lifecycle Status: Active; Minimum Order: 1; Mounting Type: Surface Mount; Operating Temperature: -55°C ~ 105°C; Package / Case: Radial, Can - SMD; Packaging: TapeAndReel; PartId: 8846; Part Status: Active; Price: 0.17; Series: WCAP-ASLL; Size / Dimension: 0.248" Dia (6.30mm); Supplier 1: DigiKey; Supplier Part Number 1: 732-8584-1-ND; Tolerance: ±20%; Value: 33µF
footprint CAP ALSMD 6.6MM H6.1MM
pins: 1, 2

## 865060543005
designator C?, comment 47µF
CAP 47 UF 20% 35 V; Part Number: 865060543005; Manufacturer: Würth Elektronik; Impedance: 440 mOhms; Lifetime @ Temp.: 2000 Hrs @ 105°C; Polarization: Polar; Ripple Current @ High Frequency: 240mA @ 100kHz; Ripple Current @ Low Frequency: 156mA @ 120Hz; Surface Mount Land Size: 0.260" L x 0.260" W (6.60mm x 6.60mm); Voltage - Rated: 35V; Applications: General Purpose; Capacitance: 47µF; ComponentLink1Description: Datasheet; ComponentLink1URL: https://katalog.we-online.de/pbs/datasheet/865060543005.pdf; ComponentLink2Description: DigiKey Link; ComponentLink2URL: http://digikey.com/product-detail/en/w-rth-elektronik/865060543005/732-8585-1-ND/5728542; Device Package: Radial, Can - SMD; Height - Seated (Max): 0.217" (5.50mm); LastUpdated: 9/2/2020 1:18:37 AM; Lifecycle Status: Active; Minimum Order: 1; Mounting Type: Surface Mount; Operating Temperature: -55°C ~ 105°C; Package / Case: Radial, Can - SMD; Packaging: TapeAndReel; PartId: 8843; Part Status: Active; Price: 0.18; Series: WCAP-ASLL; Size / Dimension: 0.248" Dia (6.30mm); Supplier 1: DigiKey; Supplier Part Number 1: 732-8585-1-ND; Tolerance: ±20%; Value: 47µF
footprint CAP ALSMD 6.6MM H6.1MM
pins: 1, 2

## 865060553006
designator C?, comment 100µF
CAP 100 UF 20% 35 V; Part Number: 865060553006; Manufacturer: Würth Elektronik; Impedance: 170 mOhms; Lifetime @ Temp.: 5000 Hrs @ 105°C; Polarization: Polar; Ripple Current @ High Frequency: 450mA @ 100kHz; Ripple Current @ Low Frequency: 292.5mA @ 120Hz; Surface Mount Land Size: 0.327" L x 0.327" W (8.30mm x 8.30mm); Voltage - Rated: 35V; Applications: General Purpose; Capacitance: 100µF; ComponentLink1Description: Datasheet; ComponentLink1URL: https://katalog.we-online.de/pbs/datasheet/865060553006.pdf; ComponentLink2Description: DigiKey Link; ComponentLink2URL: http://digikey.com/product-detail/en/w-rth-elektronik/865060553006/732-8586-1-ND/5728543; Device Package: Radial, Can - SMD; Height - Seated (Max): 0.413" (10.50mm); LastUpdated: 9/2/2020 1:25:15 AM; Lifecycle Status: Active; Minimum Order: 1; Mounting Type: Surface Mount; Operating Temperature: -55°C ~ 105°C; Package / Case: Radial, Can - SMD; Packaging: TapeAndReel; PartId: 7588; Part Status: Active; Price: 0.37; Series: WCAP-ASLL; Size / Dimension: 0.315" Dia (8.00mm); Supplier 1: DigiKey; Supplier Part Number 1: 732-8586-1-ND; Tolerance: ±20%; Value: 100µF
footprint CAP ALSMD 8.3MM H10.5MM
pins: 1, 2

## 865060553007
designator C?, comment 150µF
CAP 150 UF 20% 35 V; Part Number: 865060553007; Manufacturer: Würth Elektronik; Impedance: 170 mOhms; Lifetime @ Temp.: 5000 Hrs @ 105°C; Polarization: Polar; Ripple Current @ High Frequency: 550mA @ 100kHz; Ripple Current @ Low Frequency: 357.5mA @ 120Hz; Surface Mount Land Size: 0.327" L x 0.327" W (8.30mm x 8.30mm); Voltage - Rated: 35V; Applications: General Purpose; Capacitance: 150µF; ComponentLink1Description: Datasheet; ComponentLink1URL: https://katalog.we-online.de/pbs/datasheet/865060553007.pdf; ComponentLink2Description: DigiKey Link; ComponentLink2URL: http://digikey.com/product-detail/en/w-rth-elektronik/865060553007/732-8587-1-ND/5728544; Device Package: Radial, Can - SMD; Height - Seated (Max): 0.413" (10.50mm); LastUpdated: 9/2/2020 1:25:15 AM; Lifecycle Status: Active; Minimum Order: 1; Mounting Type: Surface Mount; Operating Temperature: -55°C ~ 105°C; Package / Case: Radial, Can - SMD; Packaging: TapeAndReel; PartId: 7602; Part Status: Active; Price: 0.44; Series: WCAP-ASLL; Size / Dimension: 0.315" Dia (8.00mm); Supplier 1: DigiKey; Supplier Part Number 1: 732-8587-1-ND; Tolerance: ±20%; Value: 150µF
footprint CAP ALSMD 8.3MM H10.5MM
pins: 1, 2

## 865060640001
designator C?, comment 1µF
CAP 1 UF 20% 50 V; Part Number: 865060640001; Manufacturer: Würth Elektronik; Impedance: 2.9 Ohms; Lifetime @ Temp.: 2000 Hrs @ 105°C; Polarization: Polar; Ripple Current @ High Frequency: 60mA @ 100kHz; Ripple Current @ Low Frequency: 35.4mA @ 120Hz; Surface Mount Land Size: 0.169" L x 0.169" W (4.30mm x 4.30mm); Voltage - Rated: 50V; Applications: General Purpose; Capacitance: 1µF; ComponentLink1Description: Datasheet; ComponentLink1URL: https://katalog.we-online.de/pbs/datasheet/865060640001.pdf; ComponentLink2Description: DigiKey Link; ComponentLink2URL: http://digikey.com/product-detail/en/w-rth-elektronik/865060640001/732-8541-1-ND/5728498; Device Package: Radial, Can - SMD; Height - Seated (Max): 0.217" (5.50mm); LastUpdated: 9/2/2020 1:23:44 AM; Lifecycle Status: Active; Minimum Order: 1; Mounting Type: Surface Mount; Operating Temperature: -55°C ~ 105°C; Package / Case: Radial, Can - SMD; Packaging: TapeAndReel; PartId: 7418; Part Status: Active; Price: 0.09; Series: WCAP-ASLL; Size / Dimension: 0.157" Dia (4.00mm); Supplier 1: DigiKey; Supplier Part Number 1: 732-8541-1-ND; Tolerance: ±20%; Value: 1µF
footprint CAP ALSMD POLY 4.3MM H5.5MM
pins: 1, 2

## 865060640002
designator C?, comment 2.2µF
CAP 2.2 UF 20% 50 V; Part Number: 865060640002; Manufacturer: Würth Elektronik; Impedance: 2.9 Ohms; Lifetime @ Temp.: 2000 Hrs @ 105°C; Polarization: Polar; Ripple Current @ High Frequency: 60mA @ 100kHz; Ripple Current @ Low Frequency: 35.4mA @ 120Hz; Surface Mount Land Size: 0.169" L x 0.169" W (4.30mm x 4.30mm); Voltage - Rated: 50V; Applications: General Purpose; Capacitance: 2.2µF; ComponentLink1Description: Datasheet; ComponentLink1URL: https://katalog.we-online.de/pbs/datasheet/865060640002.pdf; ComponentLink2Description: DigiKey Link; ComponentLink2URL: http://digikey.com/product-detail/en/w-rth-elektronik/865060640002/732-8542-1-ND/5728499; Device Package: Radial, Can - SMD; Height - Seated (Max): 0.217" (5.50mm); LastUpdated: 9/2/2020 1:23:45 AM; Lifecycle Status: Active; Minimum Order: 1; Mounting Type: Surface Mount; Operating Temperature: -55°C ~ 105°C; Package / Case: Radial, Can - SMD; Packaging: TapeAndReel; PartId: 7398; Part Status: Active; Price: 0.09; Series: WCAP-ASLL; Size / Dimension: 0.157" Dia (4.00mm); Supplier 1: DigiKey; Supplier Part Number 1: 732-8542-1-ND; Tolerance: ±20%; Value: 2.2µF
footprint CAP ALSMD POLY 4.3MM H5.5MM
pins: 1, 2

## 865060640003
designator C?, comment 3.3µF
CAP 3.3 UF 20% 50 V; Part Number: 865060640003; Manufacturer: Würth Elektronik; Impedance: 2.9 Ohms; Lifetime @ Temp.: 2000 Hrs @ 105°C; Polarization: Polar; Ripple Current @ High Frequency: 60mA @ 100kHz; Ripple Current @ Low Frequency: 35.4mA @ 120Hz; Surface Mount Land Size: 0.169" L x 0.169" W (4.30mm x 4.30mm); Voltage - Rated: 50V; Applications: General Purpose; Capacitance: 3.3µF; ComponentLink1Description: Datasheet; ComponentLink1URL: https://katalog.we-online.de/pbs/datasheet/865060640003.pdf; ComponentLink2Description: DigiKey Link; ComponentLink2URL: http://digikey.com/product-detail/en/w-rth-elektronik/865060640003/732-8543-1-ND/5728500; Device Package: Radial, Can - SMD; Height - Seated (Max): 0.217" (5.50mm); LastUpdated: 9/2/2020 1:23:45 AM; Lifecycle Status: Active; Minimum Order: 1; Mounting Type: Surface Mount; Operating Temperature: -55°C ~ 105°C; Package / Case: Radial, Can - SMD; Packaging: TapeAndReel; PartId: 7374; Part Status: Active; Price: 0.10; Series: WCAP-ASLL; Size / Dimension: 0.157" Dia (4.00mm); Supplier 1: DigiKey; Supplier Part Number 1: 732-8543-1-ND; Tolerance: ±20%; Value: 3.3µF
footprint CAP ALSMD POLY 4.3MM H5.5MM
pins: 1, 2

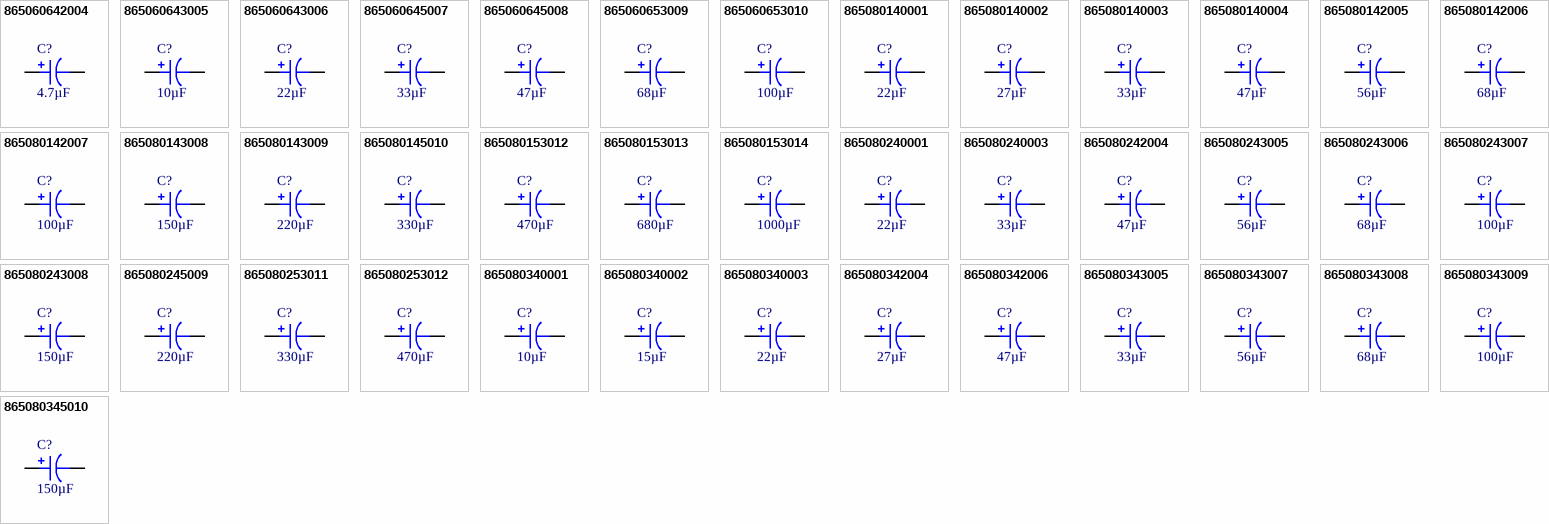
[diagram p7: symbols 865060642004 to 865080345010]

## 865060642004
designator C?, comment 4.7µF
CAP 4.7 UF 20% 50 V; Part Number: 865060642004; Manufacturer: Würth Elektronik; Impedance: 1.52 Ohms; Lifetime @ Temp.: 2000 Hrs @ 105°C; Polarization: Polar; Ripple Current @ High Frequency: 85mA @ 100kHz; Ripple Current @ Low Frequency: 50.15mA @ 120Hz; Surface Mount Land Size: 0.209" L x 0.209" W (5.30mm x 5.30mm); Voltage - Rated: 50V; Applications: General Purpose; Capacitance: 4.7µF; ComponentLink1Description: Datasheet; ComponentLink1URL: https://katalog.we-online.de/pbs/datasheet/865060642004.pdf; ComponentLink2Description: DigiKey Link; ComponentLink2URL: http://digikey.com/product-detail/en/w-rth-elektronik/865060642004/732-8544-1-ND/5728501; Device Package: Radial, Can - SMD; Height - Seated (Max): 0.217" (5.50mm); LastUpdated: 9/2/2020 1:25:23 AM; Lifecycle Status: Active; Minimum Order: 1; Mounting Type: Surface Mount; Operating Temperature: -55°C ~ 105°C; Package / Case: Radial, Can - SMD; Packaging: TapeAndReel; PartId: 7910; Part Status: Active; Price: 0.11; Series: WCAP-ASLL; Size / Dimension: 0.197" Dia (5.00mm); Supplier 1: DigiKey; Supplier Part Number 1: 732-8544-1-ND; Tolerance: ±20%; Value: 4.7µF
footprint CAP ALSMD 5.3MM H5.4MM
pins: 1, 2

## 865060643005
designator C?, comment 10µF
CAP 10 UF 20% 50 V; Part Number: 865060643005; Manufacturer: Würth Elektronik; Impedance: 1.4 Ohms; Lifetime @ Temp.: 2000 Hrs @ 105°C; Polarization: Polar; Ripple Current @ High Frequency: 165mA @ 100kHz; Ripple Current @ Low Frequency: 97.35mA @ 120Hz; Surface Mount Land Size: 0.260" L x 0.260" W (6.60mm x 6.60mm); Voltage - Rated: 50V; Applications: General Purpose; Capacitance: 10µF; ComponentLink1Description: Datasheet; ComponentLink1URL: https://katalog.we-online.de/pbs/datasheet/865060643005.pdf; ComponentLink2Description: DigiKey Link; ComponentLink2URL: http://digikey.com/product-detail/en/w-rth-elektronik/865060643005/732-8545-1-ND/5728502; Device Package: Radial, Can - SMD; Height - Seated (Max): 0.217" (5.50mm); LastUpdated: 9/2/2020 1:18:37 AM; Lifecycle Status: Active; Minimum Order: 1; Mounting Type: Surface Mount; Operating Temperature: -55°C ~ 105°C; Package / Case: Radial, Can - SMD; Packaging: TapeAndReel; PartId: 8851; Part Status: Active; Price: 0.15; Series: WCAP-ASLL; Size / Dimension: 0.248" Dia (6.30mm); Supplier 1: DigiKey; Supplier Part Number 1: 732-8545-1-ND; Tolerance: ±20%; Value: 10µF
footprint CAP ALSMD 6.6MM H6.1MM
pins: 1, 2